# EAGLE library part LTC3539 (library Strutz Electronic Industries)
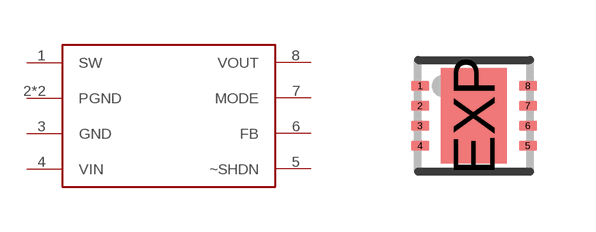
[diagram p29: symbol with the pads of DFN8_3X3; footprint DFN8_3X3]

Designator prefix -

## LTC3539  [DFN8_3X3]
1  SW
2  PGND
3  GND
4  VIN
5  ~SHDN
6  FB
7  MODE
8  VOUT
EXP  PGND

## Footprint DFN8_3X3 (pad centres in mm)
smd 0.45 x 0.25: 1 -1.35,0.75; 2 -1.35,0.25; 3 -1.35,-0.25; 4 -1.35,-0.75; 5 1.35,-0.75; 6 1.35,-0.25; 7 1.35,0.25; 8 1.35,0.75
smd 1.65 x 2.38: EXP 0,0